# Altium footprint library FC681465P.PcbLib: 1 footprints
Each footprint in its own frame and in the unit in brackets; x right, y up, seen from the top. Pads: shape width x height; smd on the part's side, far side on the other; paste and mask are expansions set on the pad; w line width, h text height; cw(c..) or ccw(c..) is an arc to the next point about the centre after c.
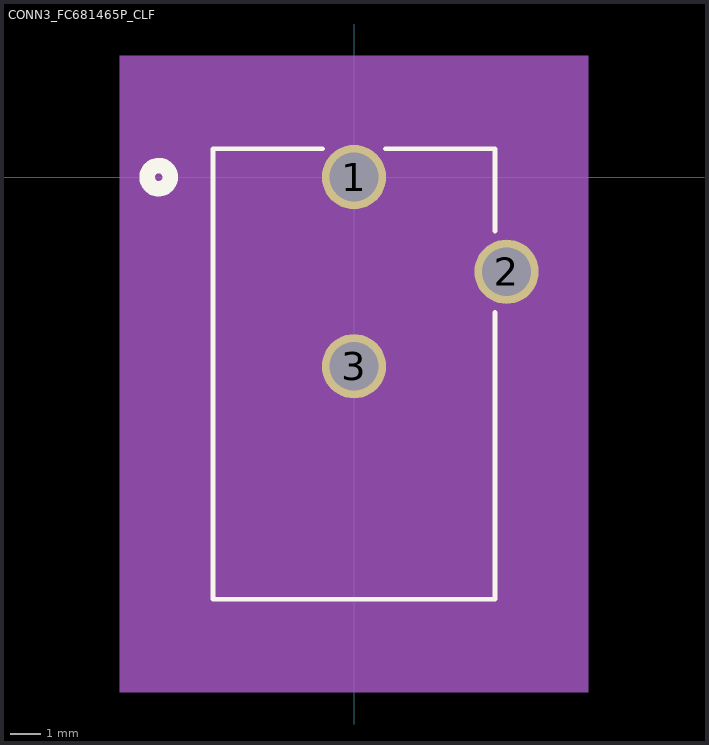
[diagram p0: the footprint, top view; thin cyan lines are the x and y axes]

## CONN3_FC681465P_CLF [mil]
pads (3):
  round 83 hole 63: 1(0,0) 2(196.85,-122.05) 3(0,-244.09)
Top Overlay:
  circle w20: c-252,0 r15
  lines w6: -40.61,36.5 -182,36.5 -182,-544.5 182,-544.5 182,-174.59 ; 40.61,36.5 182,36.5 182,-69.51
Bottom Overlay:
  circle w20: c-252,0 r15
Mechanical 5:
  region: -302,156.5 302,156.5 302,-664.5 -302,-664.5
Mechanical 13:
  circle w20: c0,75 r15
  lines w1: -177,-539.5 177,-539.5 177,31.5 -177,31.5 -177,-539.5
Mechanical 15:
  region: 187,51.5 -187,51.5 -187,-549.5 187,-549.5
  lines w6: -187,-549.5 -187,51.5 187,51.5 187,-549.5 -187,-549.5
3D body: height 10, standoff 0, extent 0,0 10,10